# Altium footprint library ELKO_SMD_6.3x8.PcbLib: 1 footprints
Each footprint in its own frame and in the unit in brackets; x right, y up, seen from the top. Pads: shape width x height; smd on the part's side, far side on the other; paste and mask are expansions set on the pad; w line width, h text height; cw(c..) or ccw(c..) is an arc to the next point about the centre after c.
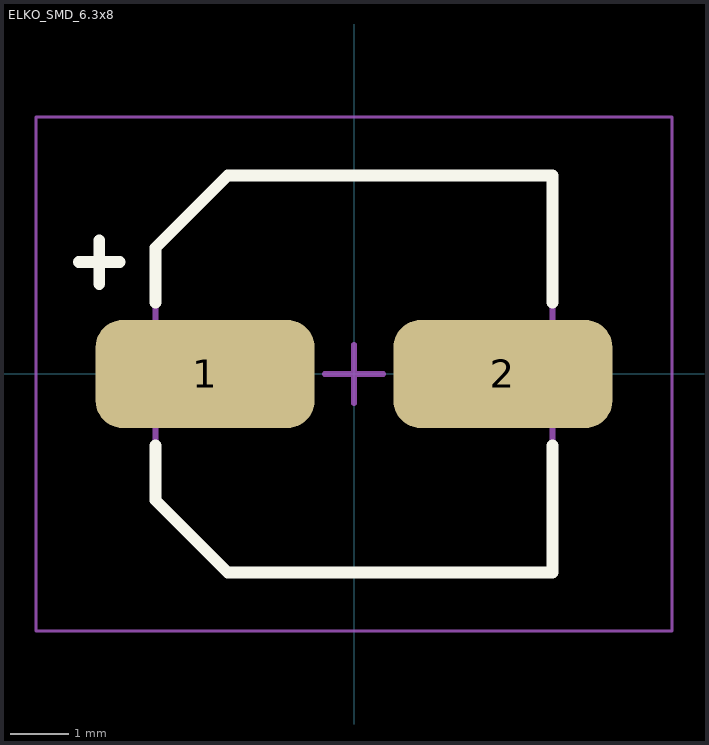
[diagram p0: the footprint, top view; thin cyan lines are the x and y axes]

## ELKO_SMD_6.3x8 [mm] "Aluminum Electrolytic Capacitor, Body 6,60x6,60x8,00mm, IPC Low Density"
height 8
pads (2):
  rrect50% 3.75x1.85 smd: 1(-2.55,0) 2(2.55,0)
Top Overlay:
  lines w0.2: -4.712,1.918 -4.012,1.918 ; -4.362,1.543 -4.362,2.293 ; -3.4,-1.225 -3.4,-2.163 -2.163,-3.4 3.4,-3.4 3.4,-1.225 ; -3.4,1.225 -3.4,2.163 -2.163,3.4 3.4,3.4 3.4,1.225
Assembly Top:
  lines w0.1: -3.4,-2.163 -2.163,-3.4 3.4,-3.4 3.4,3.4 -2.163,3.4 -3.4,2.163 -3.4,-2.163
Courtyard Top:
  lines w0.05: -5.45,-4.4 -5.45,4.4 5.45,4.4 5.45,-4.4 -5.45,-4.4
  lines w0.1: -0.5,0 0.5,0 ; 0,-0.5 0,0.5
3D body "ELKO_SMD_6.3x8.step": height 8, standoff 0, extent -3.65,-3.4 3.65,3.4